# EAGLE library part LF20021121-06 (library con-amp-minitek)
HEADER
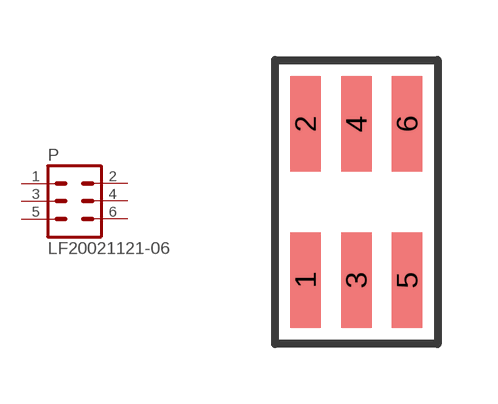
[diagram p0: symbol with the pads of LF20021121-06; footprint LF20021121-06]

Designator prefix P

## LF20021121-06  [LF20021121-06]
1  1  pas
2  2  pas
3  3  pas
4  4  pas
5  5  pas
6  6  pas

## Footprint LF20021121-06 (pad centres in mm)
HEADER
smd 0.762 x 2.388: 1 -1.27,-1.956; 2 -1.27,1.956; 3 0,-1.956; 4 0,1.956; 5 1.27,-1.956; 6 1.27,1.956